# Altium schematic symbol library Schematic_Transistors.SchLib: 8 symbols
Pins are listed as number, name and electrical type; pins without a type are passive.

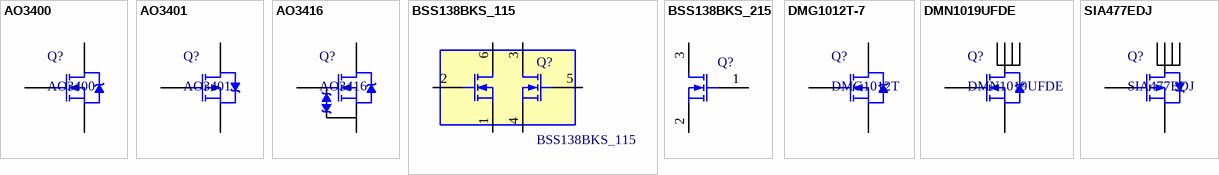
[diagram p0: symbols AO3400 to SIA477EDJ]

## AO3400
designator Q?
MOSFET N-CH 30V 5.7A SOT23; Manufacturer: Alpha & Omega Semiconductor; Manufacturer Part Number: AO3400A; Gate to Source Voltage (Vgs): 12V; Rds On Max: 26.5mR; Input Capacitance: 630pF; Max Power Dissipation: 1.4W; Number of Elements: 1; Supplier 1: Digi-Key; RoHS: Yes; Category: MOSFETs; Stock 1: 263126; Pricing 1: 1=0.38000, 10=0.28300, 100=0.13440, 500=0.11912, 1000=0.09270 (USD); Mount: Surface Mount; Case/Package: SOT-23; Number of Pins: 3; Min Operating Temperature: -55°C; Max Operating Temperature: 150°C; Packaging: Tape and Reel; Drain to Source Voltage (Vdss): 30V; Continuous Drain Current (ID): 5.7A; Power Dissipation: 1.4W; Radiation Hardening: No; Lead Free: Lead Free; ComponentLink1URL: https://datasheet.ciiva.com/940/ao3400a-940739.pdf?src-supplier=Digi-Key; ComponentLink1Description: https://datasheet.ciiva.com/940/ao3400a-940739.pdf?src-supplier=Digi-Key; ComponentLink2URL: https://datasheet.ciiva.com/26906/getdatasheetpartid-64438-26906526.pdf?src-supplier=Verical; ComponentLink2Description: https://datasheet.ciiva.com/26906/getdatasheetpartid-64438-26906526.pdf?src-supplier=Verical; ComponentLink3URL: https://datasheet.ciiva.com/940/ao3400a-940740.pdf?src-supplier=Digi-Key; ComponentLink3Description: https://datasheet.ciiva.com/940/ao3400a-940740.pdf?src-supplier=Digi-Key; ComponentLink4URL: https://datasheet.ciiva.com/940/ao3400a-940741.pdf?src-supplier=Digi-Key; ComponentLink4Description: https://datasheet.ciiva.com/940/ao3400a-940741.pdf?src-supplier=Digi-Key
footprint SOT100P290X130X100-3N (SOT23, 3-Leads, Body 2.90x1.30x1.00mm, Pitch 1.00mm, IPC Medium Density)
pins: 1 G, 2 D, 3 S

## AO3401
designator Q?
MOSFET P-CH; Continuous Drain Current (ID): 4A; Drain to Source Voltage (Vdss): 30V; Input Capacitance: 1.2nF; Max Power Dissipation: 1.4W; Number of Elements: 1; Rds On Max: 44mR; Case/Package: TO-236-3; Lead Free: Lead Free; Max Operating Temperature: 150°C; Min Operating Temperature: -55°C; Mount: Surface Mount; Number of Pins: 3; Packaging: Tape and Reel; Power Dissipation: 1.4W; Radiation Hardening: No
footprint SOT100P290X130X100-3N (SOT23, 3-Leads, Body 2.90x1.30x1.00mm, Pitch 1.00mm, IPC Medium Density)
pins: 1 G, 2 D, 3 S

## AO3416
designator Q?
MOSFET N-CH 20V SOT23; Manufacturer 1: Alpha & Omega Semiconductor; Manufacturer Part Number 1: AO3416_104; Supplier 1: Digi-Key; Stock 1: 0; RoHS: No; ComponentLink1URL: http://aosmd.com/res/data_sheets/AO3416.pdf?src-supplier=Digi-Key; ComponentLink1Description: http://aosmd.com/res/data_sheets/AO3416.pdf?src-supplier=Digi-Key
footprint SOT100P290X130X100-3N (Footprint not found)
pins: 1 G, 2 D, 3 S

## BSS138BKS_115
designator Q?
Nexperia BSS138BKS,115 Dual N-channel MOSFET, 320 mA, 60 V BSS138BK, 6-Pin TSSOP; Geometry.Height: 1.1mm; Manufacturer_Name: Nexperia; Manufacturer_Part_Number: BSS138BKS,115; Mouser Part Number: 771-BSS138BKS115; Mouser Price/Stock: https://www.mouser.com/Search/Refine.aspx?Keyword=771-BSS138BKS115; RS Part Number: 1705413P; RS Price/Stock: http://uk.rs-online.com/web/p/products/1705413P; Datasheet Link: https://assets.nexperia.com/documents/data-sheet/BSS138BKS.pdf; Supplier 1: Digi-Key; Supplier Part Number 1: 1727-6478-1-ND
footprint TSOP65P210X110-6N (TSOP, 6-Leads, Body 2.00x1.25mm, Pitch 0.65mm, IPC Medium Density)
pins: 1 S1, 2 G1, 3 D2, 4 S2, 5 G2, 6 D1

## BSS138BKS_215
designator Q?, comment BSS138BKS 1 Channel  (value not drawn)
Nexperia BSS138BKS,215 1 N-channel MOSFET, 360 mA, 60 V BSS138BK; Manufacturer_Part_Number: BSS138BKS,115; Geometry.Height: 1.1mm; Manufacturer_Name: Nexperia; Mouser Part Number: 771-BSS138BKS115; Mouser Price/Stock: https://www.mouser.com/Search/Refine.aspx?Keyword=771-BSS138BKS115; RS Part Number: 1705413P; RS Price/Stock: http://uk.rs-online.com/web/p/products/1705413P; Datasheet Link: https://assets.nexperia.com/documents/data-sheet/BSS138BKS.pdf; Supplier 1: Arrow; Supplier Part Number 1: BSS138BK,215
footprint SOT95P230X110-3N (SOT23, 3-Leads, Body 2.90x2.30mm, Pitch 0.95mm, IPC Medium Density)
pins: 1 G, 2 S, 3 D

## DMG1012T-7
designator Q?, comment DMG1012T
MOSFET N-CH 20V 630MA SOT-523; Manufacturer: Diodes; Manufacturer Part Number: DMG1012T-7; Rds On Max: 400mR; Input Capacitance: 60.67pF; Max Power Dissipation: 280mW; Rise Time: 7.4ns; Fall Time: 12.3ns; Turn-On Delay Time: 5.1ns; Turn-Off Delay Time: 26.7ns; Gate to Source Voltage (Vgs): 6V; Number of Elements: 1; Drain to Source Resistance: 300mR; Threshold Voltage: 1V; Element Configuration: Single; FET Type: 1 N-Channel; Mount: Surface Mount; Case/Package: SOT-523; Number of Pins: 3; Weight: 7.1E-05oz; Contact Plating: Tin,Matte; Min Operating Temperature: -55°C; Max Operating Temperature: 150°C; Continuous Drain Current (ID): 630mA; Packaging: Tape and Reel; Drain to Source Voltage (Vdss): 20V; Package Quantity: 3000; Number of Channels: 1; Drain to Source Breakdown Voltage: 20V; Power Dissipation: 280mW; On-State Resistance: 400MR; Length: 1.7mm; Height: 0.8mm; Width: 0.85mm; Radiation Hardening: No; REACH SVHC: No SVHC; Lead Free: Lead Free; ComponentLink1URL: https://datasheet.ciiva.com/934/ds31783-934512.pdf; ComponentLink1Description: https://datasheet.ciiva.com/934/ds31783-934512.pdf; ComponentLink2URL: https://datasheet.ciiva.com/4442/ds31783-44973-4442944.pdf; ComponentLink2Description: https://datasheet.ciiva.com/4442/ds31783-44973-4442944.pdf; ComponentLink3URL: https://datasheet.ciiva.com/11174/ds31783-11174965.pdf; ComponentLink3Description: https://datasheet.ciiva.com/11174/ds31783-11174965.pdf; ComponentLink4URL: https://datasheet.ciiva.com/17324/ds31783-17324010.pdf; ComponentLink4Description: https://datasheet.ciiva.com/17324/ds31783-17324010.pdf; ComponentLink5URL: https://datasheet.ciiva.com/6383/ds31783-6383803.pdf; ComponentLink5Description: https://datasheet.ciiva.com/6383/ds31783-6383803.pdf; ComponentLink6URL: https://datasheet.ciiva.com/934/ds31783-934511.pdf; ComponentLink6Description: https://datasheet.ciiva.com/934/ds31783-934511.pdf
footprint SOT65P200X125X95-3N (SOT323, 3-Leads, Body 2.00x1.25x0.95mm, Pitch 0.65mm, IPC Medium Density)
pins: 1 G, 2 S, 3 D

## DMN1019UFDE
designator Q?
MOSFET N CH 12V 11A U-DFN2020-6E; Manufacturer: Diodes; Manufacturer Part Number: DMN1019UFDE-7; Rds On Max: 10mR; Input Capacitance: 2.425nF; Max Power Dissipation: 690mW; Element Configuration: Single; Number of Channels: 1; Gate to Source Voltage (Vgs): 8V; Fall Time: 16.8ns; Turn-Off Delay Time: 57.6ns; Turn-On Delay Time: 7.6ns; Rise Time: 22.2ns; Supplier 1: Digi-Key; RoHS: Yes; Category: MOSFETs; Stock 1: 858358; Pricing 1: 1=0.43000, 10=0.36800, 25=0.34320, 100=0.25480, 500=0.19894, 1000=0.16170 (USD); Mount: Surface Mount; Case/Package: DFN EP; Number of Pins: 6; Contact Plating: Gold; Min Operating Temperature: -55°C; Max Operating Temperature: 150°C; Drain to Source Voltage (Vdss): 12V; Continuous Drain Current (ID): 11A; Packaging: Tape and Reel; Drain to Source Resistance: 10mR; Package Quantity: 3000; Number of Elements: 1; Length: 2.05mm; Width: 2.05mm; Height: 0.58mm; Radiation Hardening: No; Lead Free: Lead Free; REACH SVHC: No SVHC; ComponentLink1URL: https://datasheet.ciiva.com/11174/dmn1019ufde-11174928.pdf?src-supplier=Avnet; ComponentLink1Description: https://datasheet.ciiva.com/11174/dmn1019ufde-11174928.pdf?src-supplier=Avnet; ComponentLink2URL: https://datasheet.ciiva.com/13045/dmn1019ufde-218732-13045745.pdf?src-supplier=Mouser; ComponentLink2Description: https://datasheet.ciiva.com/13045/dmn1019ufde-218732-13045745.pdf?src-supplier=Mouser; ComponentLink3URL: https://datasheet.ciiva.com/25625/0900766b8115c354-25625838.pdf?src-supplier=RSComponents; ComponentLink3Description: https://datasheet.ciiva.com/25625/0900766b8115c354-25625838.pdf?src-supplier=RSComponents
footprint DFN200X200X65-6N (U-DNF2020-6, 6-Leads, Body 2.00x2.00mm, Pitch 0.65mm, IPC Medium Density)
pins: 1 D, 2 D, 3 G, 4 S, 5 D, 6 D

## SIA477EDJ
designator Q?
MOSFET 12V 14mOhm@4.5V 12A P-Ch; Manufacturer: Vishay Semiconductors; Manufacturer Part Number: SIA477EDJ-T1-GE3; Rds On Max: 14mR; Input Capacitance: 2.97nF; Max Power Dissipation: 19W; Gate to Source Voltage (Vgs): 8V; Supplier 1: Avnet; RoHS: Yes; Category: MOSFETs; Stock 1: 3000; Pricing 1: 3000=0.16191, 6000=0.15741, 12000=0.15315, 18000=0.14912, 30000=0.14530 (USD); Mount: Surface Mount; Min Operating Temperature: -55°C; Max Operating Temperature: 150°C; Package Quantity: 3000; Packaging: Tape and Reel; Drain to Source Voltage (Vdss): 12V; Continuous Drain Current (ID): 12A; Radiation Hardening: No; ComponentLink1URL: https://datasheet.ciiva.com/13057/sia477edj-223743-13057988.pdf?src-supplier=Mouser; ComponentLink1Description: https://datasheet.ciiva.com/13057/sia477edj-223743-13057988.pdf?src-supplier=Mouser
footprint POWERPAK-SOC65P210X65-6N (PowerPAK SO-70, 6-Leads, Body 2.07x2.07mm, Pitch 0.65mm, IPC Medium Density)
pins: 1 D, 2 D, 3 G, 4 S, 5 D, 6 D